# EAGLE library part REZZONICS_TLV320AIC3204IRHBT (library DMFX-1_v1.0)
Ultra Low Power Stereo Audio Codec
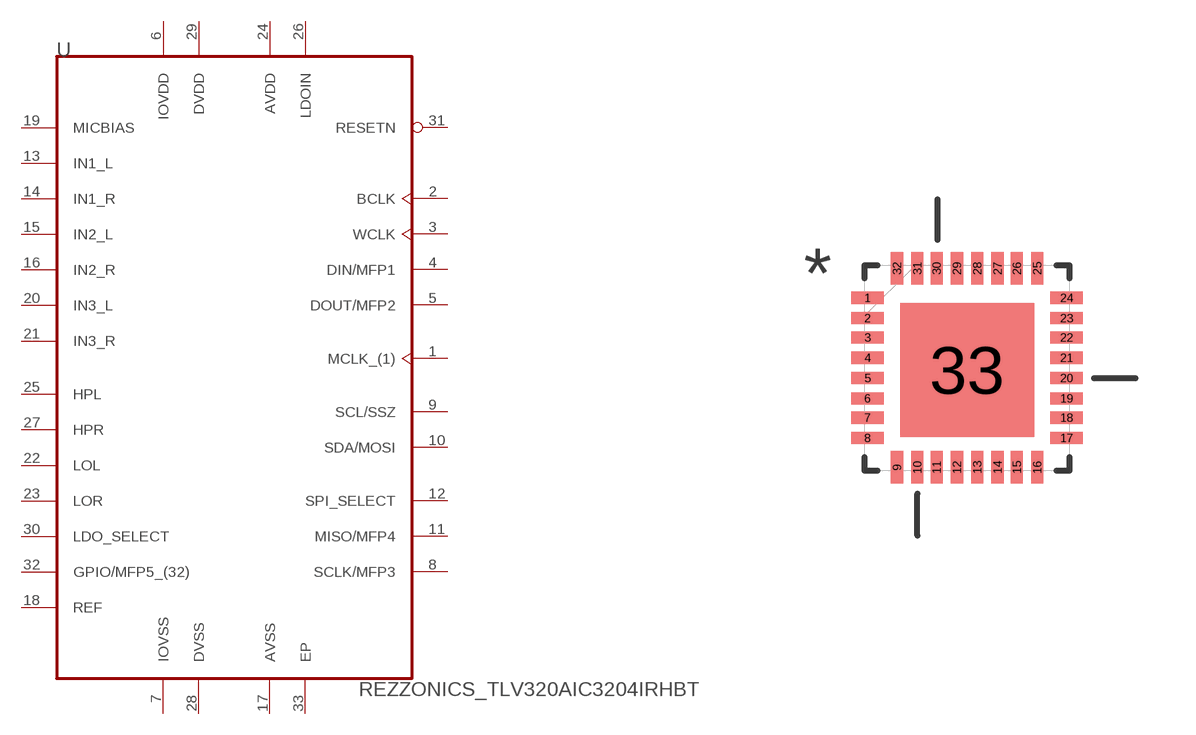
[diagram p15: symbol with the pads of REZZONICS_QFN50P500X500X100-33N; footprint REZZONICS_QFN50P500X500X100-33N]

Designator prefix U

## REZZONICS_TLV320AIC3204IRHBT (MPN: TLV320AIC3204IRHBT; OC_FARNELL: 1682562; OC_NEWARK: 09P8706; PACKAGE: VQFN-32; SUPPLIER: Texas Instruments)  [REZZONICS_QFN50P500X500X100-33N]
1  MCLK_(1)  in
2  BCLK
3  WCLK
4  DIN/MFP1  in
5  DOUT/MFP2  out
6  IOVDD  pwr
7  IOVSS  pwr
8  SCLK/MFP3  in
9  SCL/SSZ  in
10  SDA/MOSI  in
11  MISO/MFP4  out
12  SPI_SELECT  in
13  IN1_L  in
14  IN1_R  in
15  IN2_L  in
16  IN2_R  in
17  AVSS  pwr
18  REF  out
19  MICBIAS  out
20  IN3_L  in
21  IN3_R  in
22  LOL  out
23  LOR  out
24  AVDD  pwr
25  HPL  out
26  LDOIN  pwr
27  HPR  out
28  DVSS  pwr
29  DVDD  pwr
30  LDO_SELECT  in
31  RESETN  in
32  GPIO/MFP5_(32)  in
33  EP  pwr

## Footprint REZZONICS_QFN50P500X500X100-33N (pad centres in mm)
smd 0.813 x 0.305: 1 -2.489,1.753; 2 -2.489,1.245; 3 -2.489,0.762; 4 -2.489,0.254; 5 -2.489,-0.254; 6 -2.489,-0.762; 7 -2.489,-1.245; 8 -2.489,-1.753; 17 2.489,-1.753; 18 2.489,-1.245; 19 2.489,-0.762; 20 2.489,-0.254; 21 2.489,0.254; 22 2.489,0.762; 23 2.489,1.245; 24 2.489,1.753
smd 0.305 x 0.813: 9 -1.753,-2.489; 10 -1.245,-2.489; 11 -0.762,-2.489; 12 -0.254,-2.489; 13 0.254,-2.489; 14 0.762,-2.489; 15 1.245,-2.489; 16 1.753,-2.489; 25 1.753,2.489; 26 1.245,2.489; 27 0.762,2.489; 28 0.254,2.489; 29 -0.254,2.489; 30 -0.762,2.489; 31 -1.245,2.489; 32 -1.753,2.489
smd 3.353 x 3.353: 33 0,-0.051